# Altium schematic symbol library Analog_DAC.SchLib: 1 symbol
Pins are listed as number, name and electrical type; pins without a type are passive.

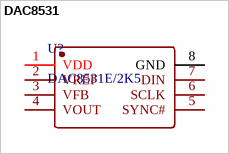
[diagram p0: symbol DAC8531]

## DAC8531
designator U?, comment DAC8531E/2K5
Low-Power, Rail-to-Rail Output, 16-Bit Serial Input DIGITAL-TO-ANALOG CONVERTER
footprint MSOP-8_L3.0-W3.0-P0.65-LS4.9-BL
pins: 1 VDD, 2 VREF, 3 VFB, 4 VOUT, 5 SYNC#, 6 SCLK, 7 DIN, 8 GND